# Altium footprint library barun control plate.pcblib: 6 footprints
Each footprint in its own frame and in the unit in brackets; x right, y up, seen from the top. Pads: shape width x height; smd on the part's side, far side on the other; paste and mask are expansions set on the pad; w line width, h text height; cw(c..) or ccw(c..) is an arc to the next point about the centre after c.
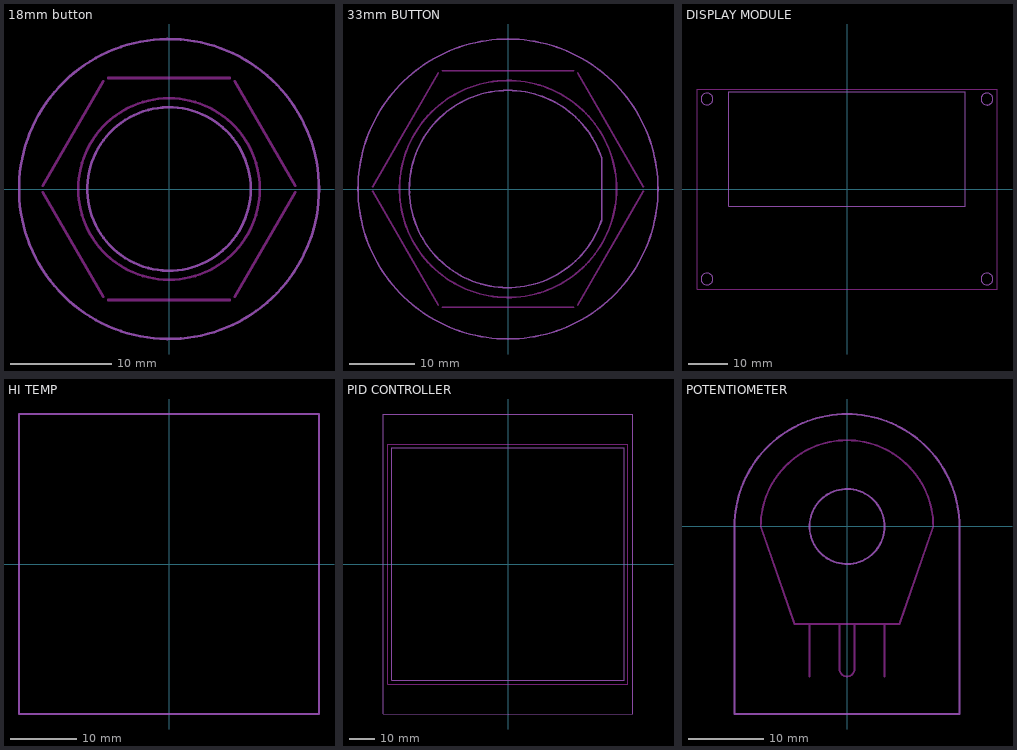
[diagram p0: the footprints below, top view; thin cyan lines are the x and y axes]

## 18mm button [mm] "BUGLIN MP0045/1D2"
Keep-Out Layer:
  circle w0.254: c0,0 r9
  lines w0.254: -12.526,-0.304 -6.526,-10.696 ; -12.526,0.304 -6.526,10.696 ; -6,-11 6,-11 ; -6,11 6,11 ; 6.526,-10.696 12.526,-0.304 ; 6.526,10.696 12.526,0.304
Mechanical 1:
  circle w0.254: c0,0 r8.1
  text "CUT OUT" at -6.5,-1 h2
Mechanical 2:
  circle w0.254: c0,0 r14.866
  text "CUT OUT" at -6.5,-4 h2

## 33mm BUTTON [mm]
Keep-Out Layer:
  circle w0.254: c0,0 r16.5
  lines w0.254: -20.588,-0.34 -10.588,-17.66 -15.588,-9 ; -15.588,9 -20.588,0.34 -10.588,17.66 ; -10,-18 10,-18 0,-18 ; 0,18 -10,18 10,18 ; 10.588,-17.66 20.588,-0.34 15.588,-9 ; 15.588,9 10.588,17.66 20.588,0.34
Mechanical 1:
  lines w0.254: 14.209,-4.807 cw(c0,0) 14.241,4.712 14.241,-4.807
  text "CUT OUT" at -9.75,-1.25 h3
Mechanical 2:
  circle w0.254: c0,0 r22.804
  text "CUT OUT" at -15.75,-6.5 h5

## DISPLAY MODULE [mm]
Keep-Out Layer:
  lines w0.254: -38.1,-25.375 -38.1,25.425 38.1,25.425 38.1,-25.375 -38.1,-25.375
Mechanical 1:
  lines w0.254: -29.992,-4.329 -29.992,24.671 30.008,24.671 30.008,-4.329 -29.992,-4.329
  text "CUT OUT" at -16,5 h5
Mechanical 2:
  circle w0.254: c35.56,-22.835 r1.5
  circle w0.254: c-35.56,-22.835 r1.5
  circle w0.254: c35.56,22.885 r1.5
  circle w0.254: c-35.56,22.885 r1.5
  lines w0.254: 34.06,22.885 cw(c35.56,22.885) 35.56,24.385 ; 35.56,21.335 ccw(c35.56,22.835) 37.06,22.835
  text "CUT OUT" at -16.25,-2.5 h5

## HI TEMP [mm]
Mechanical 1:
  lines w0.254: -22.5,-22.5 -22.5,22.5 22.5,22.5 22.5,-22.5 -22.5,-22.5
  text "CUT OUT" at -17.5,-2.5 h5

## PID CONTROLLER [mm] "SHIMADEN SR23 SERIES CONTROLLER"
Keep-Out Layer:
  lines w0.254: -48,-48 -48,48 48,48 48,-48 -48,-48
Mechanical 1:
  lines w0.254: -46.5,-46.5 46.5,-46.5 46.5,46.5 -46.5,46.5 -46.5,-46.5
  text "CUT OUT" at -16,1 h5
Mechanical 2:
  lines w0.254: -50,-60 0,-60 50,-60 50,0 50,60 0,60 -50,60 -50,0 -50,-60
  text "CUT OUT" at -15.25,-8 h5

## POTENTIOMETER [mm] "TYCO TW1103KA (Farnell 1502913)"
Keep-Out Layer:
  lines w0.254: -5,-20 -5,-13 0,-13 5,-13 5,-20 ; -1,-13 -1,-18 -1,-19 ccw(c0,-19) 1,-19 1,-13 ; -11.5,0 cw(c0,0) 11.5,0 7,-13 -7,-13 -11.5,0
Mechanical 1:
  circle w0.254: c0,0 r5
  text "CUT" at -2.75,1 h2
  text "OUT" at -2.75,-3 h2
Mechanical 2:
  lines w0.254: -15,-25 15,-25 15,0 ccw(c0,0) -15,0 -15,-25
  text "CUT OUT" at -10.25,-10.25 h3